# Altium schematic symbol library SchLib.Schlib: 1 symbol
Pins are listed as number, name and electrical type; pins without a type are passive.

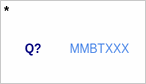
[diagram p0: symbol *]

## *
designator Q?  Manufacturer Part Number: MMBTXXX  (hidden comment: *)